# EAGLE library part R-4R* (library Discreter)
Resistor Array
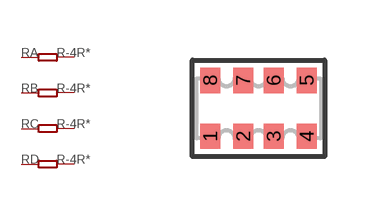
[diagram p5: symbol with the pads of 1206-8-3.3X2.4; footprint 1206-8-3.3X2.4]

Designator prefix R; gates A=R B=R C=R D=R

## R-4R-1206  [1206-8-3.3X2.4]
1  A:1  pas
2  B:1  pas
3  C:1  pas
4  D:1  pas
5  D:2  pas
6  C:2  pas
7  B:2  pas
8  A:2  pas

## Footprint 1206-8-3.3X2.4 (pad centres in mm)
BOURNS Chip Resistor Array Source: RS Component / BUORNS
smd 0.508 x 0.635: 1 -1.206,-0.699; 2 -0.381,-0.699; 3 0.381,-0.699; 4 1.206,-0.699; 5 1.206,0.699; 6 0.381,0.699; 7 -0.381,0.699; 8 -1.206,0.699